# EAGLE library part TA7291P (library TA7291P)
Bridge Motor Driver TOSHIBA
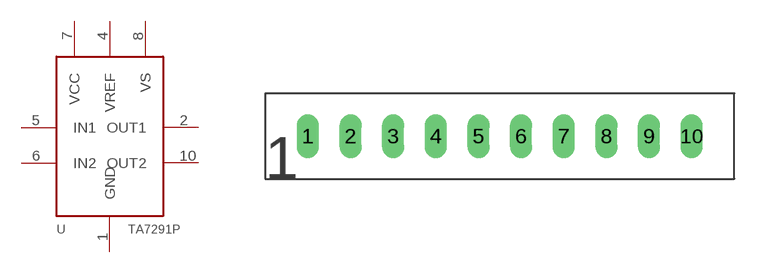
[diagram p0: symbol with the pads of HSIP10; footprint HSIP10]

Designator prefix U

## TA7291P (Availability: Unavailable; Description: Motor Driver Bipolar Parallel 10-HSIP; MF: Toshiba Semiconductor; MP: TA7291P; Package: SIP-10 Toshiba; Price: None)  [HSIP10]
1  GND  pwr
2  OUT1  out
4  VREF  pwr
5  IN1  in
6  IN2  in
7  VCC  pwr
8  VS  pwr
10  OUT2  out

## Footprint HSIP10 (pad centres in mm)
HSIP10P 2.54 PACKAGE
drill 0.8 long: 1 -12.7,0; 2 -10.16,0; 3 -7.62,0; 4 -5.08,0; 5 -2.54,0; 6 0,0; 7 2.54,0; 8 5.08,0; 9 7.62,0; 10 10.16,0